# EAGLE library part ANT-GSM-SMD-CER (library custom)
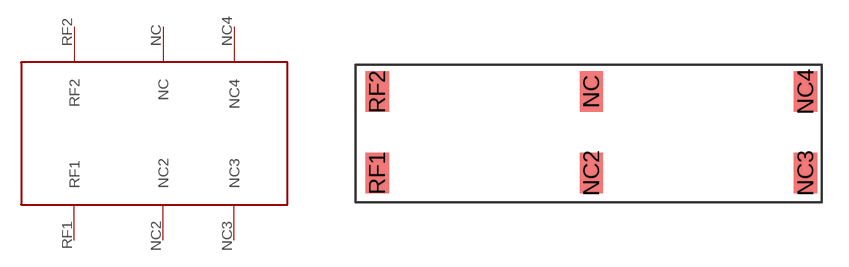
[diagram p1: symbol with the pads of ANT-GSM-SMD-CER; footprint ANT-GSM-SMD-CER]

Designator prefix U

## ANT-GSM-SMD-CER  [ANT-GSM-SMD-CER]
NC  NC
NC2  NC2
NC3  NC3
NC4  NC4
RF1  RF1
RF2  RF2

## Footprint ANT-GSM-SMD-CER (pad centres in mm)
smd 1.3 x 2.25: NC 13.15,6.165; NC2 13.15,1.625; NC3 25.1,1.625; NC4 25.1,6.165; RF1 1.2,1.625; RF2 1.2,6.165